# EAGLE library part 70553-25 (library con-molex-c-grid)
C-Grid SL
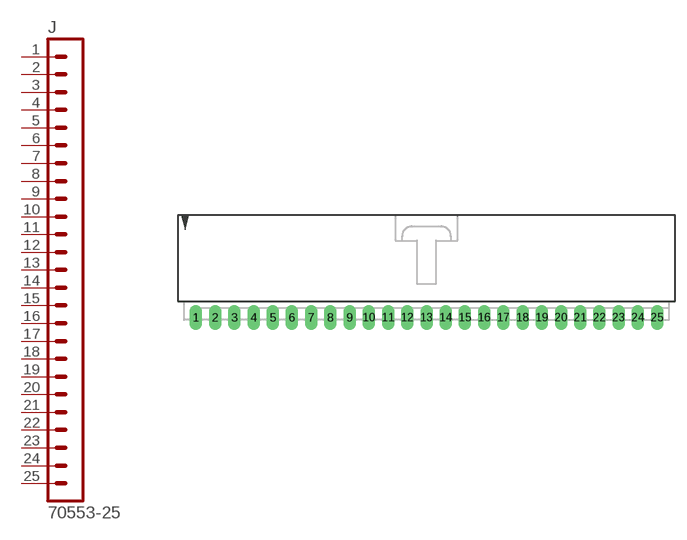
[diagram p39: symbol with the pads of 70553-25; footprint 70553-25]

Designator prefix J

## 70553-25  [70553-25]
1  1  pas
2  2  pas
3  3  pas
4  4  pas
5  5  pas
6  6  pas
7  7  pas
8  8  pas
9  9  pas
10  10  pas
11  11  pas
12  12  pas
13  13  pas
14  14  pas
15  15  pas
16  16  pas
17  17  pas
18  18  pas
19  19  pas
20  20  pas
21  21  pas
22  22  pas
23  23  pas
24  24  pas
25  25  pas

## Footprint 70553-25 (pad centres in mm)
C-Grid SL right angle
drill 1.092 long: 1 -30.48,-7.62; 2 -27.94,-7.62; 3 -25.4,-7.62; 4 -22.86,-7.62; 5 -20.32,-7.62; 6 -17.78,-7.62; 7 -15.24,-7.62; 8 -12.7,-7.62; 9 -10.16,-7.62; 10 -7.62,-7.62; 11 -5.08,-7.62; 12 -2.54,-7.62; 13 0,-7.62; 14 2.54,-7.62; 15 5.08,-7.62; 16 7.62,-7.62; 17 10.16,-7.62; 18 12.7,-7.62; 19 15.24,-7.62; 20 17.78,-7.62; 21 20.32,-7.62; 22 22.86,-7.62; 23 25.4,-7.62; 24 27.94,-7.62; 25 30.48,-7.62